# Altium integrated library 0805Y0500220JCT.IntLib: 1 symbol
Pins are listed as number, name and electrical type; pins without a type are passive.

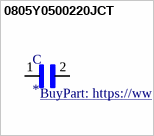
[diagram p0: symbol 0805Y0500220JCT]

## 0805Y0500220JCT
designator C
Cap Cer 22pf 50v C0g/Np0 0805; MF: Syfer; MP: 0805Y0500220JCT; Value: *; Mouser-Purchase-URL: https://snapeda.com/shop?store=Mouser&id=1818858; Package: 2012 Knowles Syfer; Price: None; Availability: Warning; SnapEDA_Link: https://www.snapeda.com/parts/0805Y0500220JCT/Syfer/view-part/1818858/?ref=snap; BuyPart: https://www.snapeda.com/parts/0805Y0500220JCT/Syfer/view-part/1818858/?ref=eda
footprint CAPC2012X130N
pins: 1, 2